# Altium schematic symbol library RC0402FR-07549RL.SchLib: 1 symbol
Pins are listed as number, name and electrical type; pins without a type are passive.

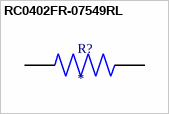
[diagram p0: symbol RC0402FR-07549RL]

## RC0402FR-07549RL
designator R?
RC0402 549R 1% 0,063W; MP: RC0402FR-07549RL; Package: None; Price: None; Value: *; Availability: Unavailable
footprint RESC1005X40N
pins: 1, 2